# EAGLE library part USBA-2 (library work)
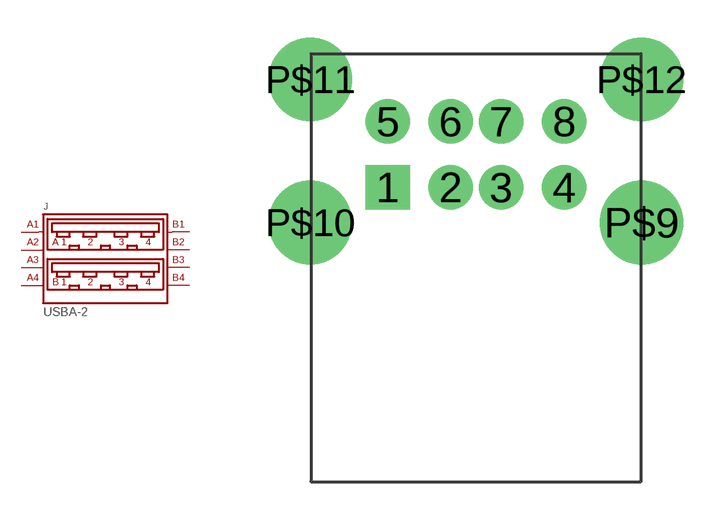
[diagram p23: symbol with the pads of USBA-2; footprint USBA-2]

Designator prefix J

## USBA-2  [USBA-2]
1  B1
2  B2
3  B3
4  B4
5  A1
6  A2
7  A3
8  A4

## Footprint USBA-2 (pad centres in mm)
drill 1 pad 1.778 square: 1 -3.5,-1.31
drill 1 pad 1.778: 2 -1,-1.31; 3 1,-1.31; 4 3.5,-1.31; 5 -3.5,1.31; 6 -1,1.31; 7 1,1.31; 8 3.5,1.31
drill 2.3 pad 3.3: P$9 6.57,-2.71; P$10 -6.57,-2.71; P$11 -6.57,2.97; P$12 6.57,2.97